# EAGLE library part PINHEAD-0.2IN-1X12 (library parts)
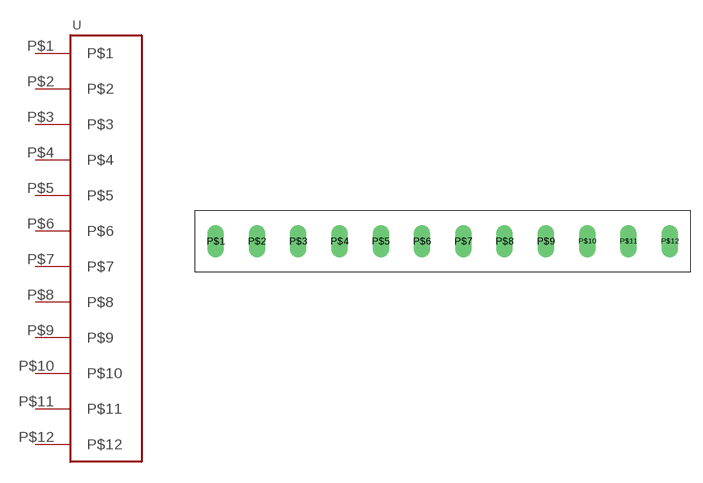
[diagram p4: symbol with the pads of 0.2IN-TERMINAL-BLOCK-12; footprint 0.2IN-TERMINAL-BLOCK-12]

Designator prefix -

## PINHEAD-0.2IN-1X12  [0.2IN-TERMINAL-BLOCK-12]
P$1  P$1
P$2  P$2
P$3  P$3
P$4  P$4
P$5  P$5
P$6  P$6
P$7  P$7
P$8  P$8
P$9  P$9
P$10  P$10
P$11  P$11
P$12  P$12

## Footprint 0.2IN-TERMINAL-BLOCK-12 (pad centres in mm)
drill 1.1 pad 2 long: P$1 -27.94,0; P$2 -22.86,0; P$3 -17.78,0; P$4 -12.7,0; P$5 -7.62,0; P$6 -2.54,0; P$7 2.54,0; P$8 7.62,0; P$9 12.7,0; P$10 17.78,0; P$11 22.86,0; P$12 27.94,0